# Altium footprint library DIP794W45P254L1969H508Q14.PcbLib: 1 footprints
Each footprint in its own frame and in the unit in brackets; x right, y up, seen from the top. Pads: shape width x height; smd on the part's side, far side on the other; paste and mask are expansions set on the pad; w line width, h text height; cw(c..) or ccw(c..) is an arc to the next point about the centre after c.
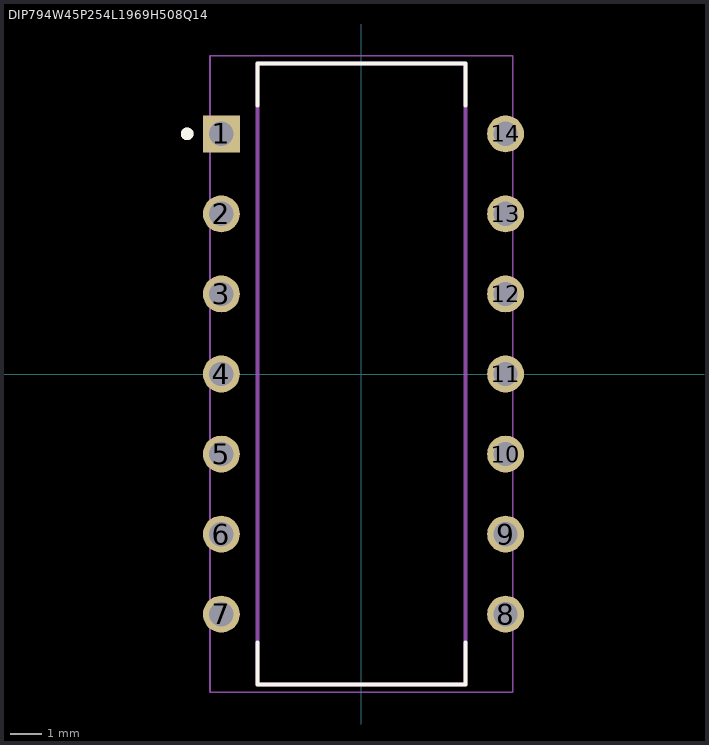
[diagram p0: the footprint, top view; thin cyan lines are the x and y axes]

## DIP794W45P254L1969H508Q14 [mm]
pads (14):
  rect 1.17x1.17 / inner round 1.17 / far side rect 1.17x1.17 hole 0.77: 1(-4.445,7.62)
  round 1.17 hole 0.77: 2(-4.445,5.08) 3(-4.445,2.54) 4(-4.445,0) 5(-4.445,-2.54) 6(-4.445,-5.08) 7(-4.445,-7.62) 8(4.572,-7.62) 9(4.572,-5.08) 10(4.572,-2.54) 11(4.572,0) 12(4.572,2.54) 13(4.572,5.08) 14(4.572,7.62)
Top Overlay:
  circle w0.2: c-5.53,7.62 r0.1
  lines w0.127: -3.3,-8.525 -3.3,-9.845 3.3,-9.845 3.3,-8.525 ; -3.3,8.525 -3.3,9.845 3.3,9.845 3.3,8.525
Mechanical 13:
  circle w0.2: c-5.53,7.62 r0.1
  lines w0.127: -3.3,-9.845 3.3,-9.845 3.3,9.845 -3.3,9.845 -3.3,-9.845
Mechanical 15:
  lines w0.05: -4.805,-10.095 4.805,-10.095 4.805,10.095 -4.805,10.095 -4.805,-10.095
3D body "LM324N--3DModel-STEP-56544.STEP": height 5.08, standoff -3.17, extent -5.334,-9.779 5.588,9.525